# EAGLE library part *393 (library digital)
74xx393: Dual 4-bit binary counter With reset
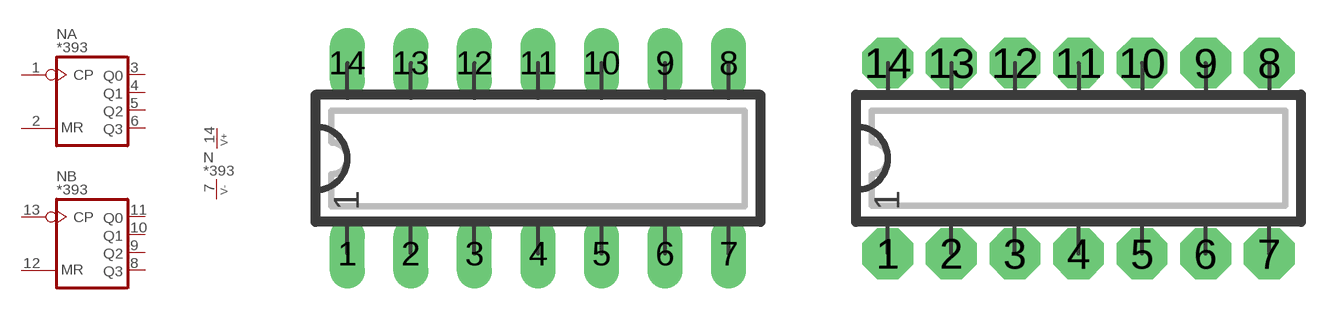
[diagram p66: symbol with the pads of DIP14L; footprints DIP14L, DIP14N]

Designator prefix N; gates A=COUNT_5 B=COUNT_5 P=V+-

## 74AC393, 74ACT393, 74HC393, 74HCT393  [DIP14L]
1  A:CP  in
2  A:MR  in
3  A:Q0  out
4  A:Q1  out
5  A:Q2  out
6  A:Q3  out
7  P:V-  pwr
8  B:Q3  out
9  B:Q2  out
10  B:Q1  out
11  B:Q0  out
12  B:MR  in
13  B:CP  in
14  P:V+  pwr

## 74AC393L, 74ACT393L, 74HC393L, 74HCT393L  [DIP14L]
Pads as for DIP14L

## 74AC393N, 74ACT393N, 74HC393N, 74HCT393N  [DIP14N]
Pads as for DIP14L

## 74AC393R, 74ACT393R, 74HC393R, 74HCT393R  [DIP14R]
Pads as for DIP14L

## Footprint DIP14L (pad centres in mm)
DIP-14, long pads Standard IC package, 14 pins
drill 0.813 pad 1.397 long: 1 0,0; 2 2.54,0; 3 5.08,0; 4 7.62,0; 5 10.16,0; 6 12.7,0; 7 15.24,0; 8 15.24,7.62; 9 12.7,7.62; 10 10.16,7.62; 11 7.62,7.62; 12 5.08,7.62; 13 2.54,7.62; 14 0,7.62

## Footprint DIP14N (pad centres in mm)
DIP-14 Standard IC package, 14 pins
drill 0.813 pad 2.032 octagon: 1 0,0; 2 2.54,0; 3 5.08,0; 4 7.62,0; 5 10.16,0; 6 12.7,0; 7 15.24,0; 8 15.24,7.62; 9 12.7,7.62; 10 10.16,7.62; 11 7.62,7.62; 12 5.08,7.62; 13 2.54,7.62; 14 0,7.62

## Footprint DIP14R (pad centres in mm)
DIP-14, reduced pads Standard IC package, 14 pins
drill 0.813 pad 1.397 square: 1 0,0; 2 2.54,0; 3 5.08,0; 4 7.62,0; 5 10.16,0; 6 12.7,0; 7 15.24,0; 8 15.24,7.62; 9 12.7,7.62; 10 10.16,7.62; 11 7.62,7.62; 12 5.08,7.62; 13 2.54,7.62; 14 0,7.62